# Altium footprint library DFN3333-8L.PcbLib: 1 footprints
Each footprint in its own frame and in the unit in brackets; x right, y up, seen from the top. Pads: shape width x height; smd on the part's side, far side on the other; paste and mask are expansions set on the pad; w line width, h text height; cw(c..) or ccw(c..) is an arc to the next point about the centre after c.
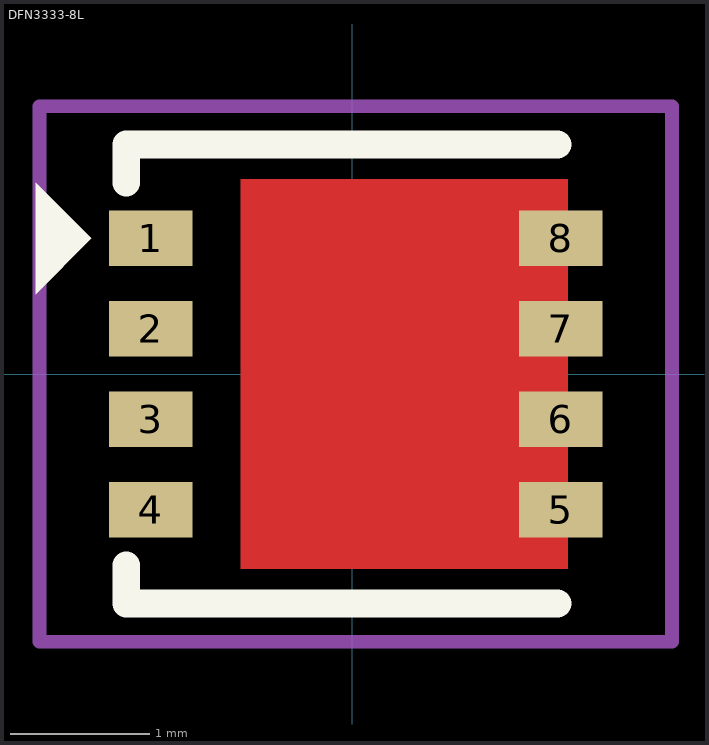
[diagram p0: the footprint, top view; thin cyan lines are the x and y axes]

## DFN3333-8L [mm]
pads (8):
  rect 0.6x0.4 smd: 1(-1.45,0.975) 2(-1.45,0.325) 3(-1.45,-0.325) 4(-1.45,-0.975) 5(1.5,-0.975) 6(1.5,-0.325) 7(1.5,0.325) 8(1.5,0.975)
Top Layer:
  region: -0.8,1.4 1.55,1.4 1.55,-1.4 -0.8,-1.4
Top Overlay:
  region: -2.275,0.575 -2.275,1.375 -1.875,0.975
  lines w0.2: -1.625,-1.375 -1.625,-1.65 1.475,-1.65 ; -1.625,1.375 -1.625,1.65 1.475,1.65
Top Courtyard:
  lines w0.1: 2.3,1.9 2.3,-1.925 -2.25,-1.925 -2.25,1.925 2.3,1.925
3D body "2023101114201595anbx4Ns3.step": height 0.74, standoff -0.02, extent -1.6,-1.65 1.65,1.65